# Altium footprint library PHOENIX_1755749.PcbLib: 1 footprints
Each footprint in its own frame and in the unit in brackets; x right, y up, seen from the top. Pads: shape width x height; smd on the part's side, far side on the other; paste and mask are expansions set on the pad; w line width, h text height; cw(c..) or ccw(c..) is an arc to the next point about the centre after c.
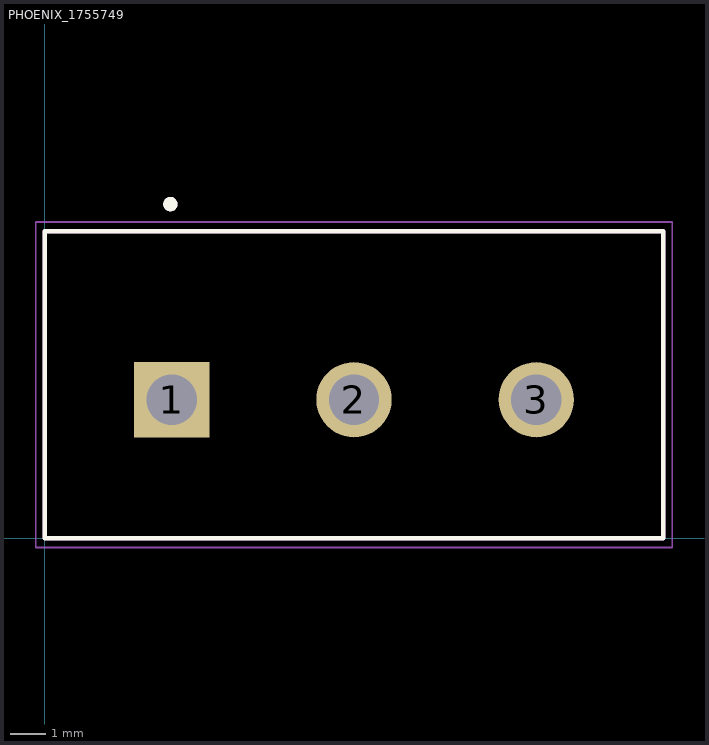
[diagram p0: the footprint, top view; thin cyan lines are the x and y axes]

## PHOENIX_1755749 [mm]
pads (3):
  rect 2.1x2.1 / inner round 2.1 / far side rect 2.1x2.1 hole 1.4: 1(3.54,3.87)
  round 2.1 hole 1.4: 2(8.62,3.87) 3(13.7,3.87)
Top Overlay:
  circle w0.2: c3.5,9.32 r0.1
  lines w0.127: 0,0 17.24,0 17.24,8.57 0,8.57 0,0
Mechanical 13:
  circle w0.2: c3.5,9.32 r0.1
  lines w0.127: 0,0 17.24,0 17.24,8.57 0,8.57 0,0
Mechanical 15:
  lines w0.05: -0.25,-0.25 -0.25,8.82 17.49,8.82 17.49,-0.25 -0.25,-0.25
3D body "step_temp.STEP": height 12.15, standoff -3.9, extent 0.016,0 17.256,8.57